# Altium schematic symbol library PZT3904T1G.SchLib: 1 symbol
Pins are listed as number, name and electrical type; pins without a type are passive.

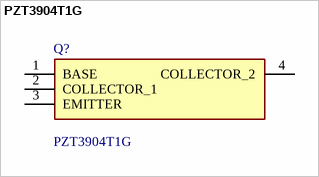
[diagram p0: symbol PZT3904T1G]

## PZT3904T1G
designator Q?
Pb-Free Package is Available; S and NSV Prefix for Automotive and Other Applications Requiring Unique Site and Control Change Requirements; AEC-Q101 Qualified and PPAP Capable; Manufacturer_Name: onsemi; Geometry.Height: 1.75mm; Mouser Part Number: 863-PZT3904T1G; Mouser Price/Stock: https://www.mouser.co.uk/ProductDetail/onsemi/PZT3904T1G?qs=xZq1yRCsb1eC3ukwvyKrig%3D%3D; Manufacturer_Part_Number: PZT3904T1G; Datasheet Link: https://www.onsemi.com/pub/Collateral/PZT3904T1-D.PDF
footprint SOT230P700X175-4N
pins: 1 BASE, 2 COLLECTOR_1, 3 EMITTER, 4 COLLECTOR_2